# EAGLE library part JT990 (library jensen)
DISCRETE OP-AMP
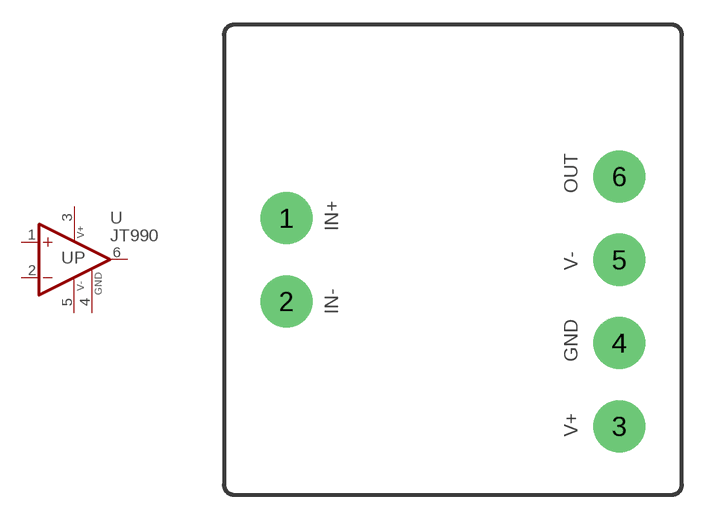
[diagram p1: symbol with the pads of JT990; footprint JT990]

Designator prefix U; gates G$1=OPAMP P=PWRG+-

## JT990  [JT990]
1  G$1:+IN  in
2  G$1:-IN  in
3  P:V+  pwr
4  P:GND  pas
5  P:V-  pwr
6  G$1:OUT  out

## Footprint JT990 (pad centres in mm)
DISCRETE OP-AMP Sockets are Mill-Max Part# 0344-2-19-01-34-27-10-0 socket pin holes are 68 mil
drill 1.727 pad 3.175: 1 -10.16,2.54; 2 -10.16,-2.54; 3 10.16,-10.16; 4 10.16,-5.08; 5 10.16,0; 6 10.16,5.08